# Altium footprint library DW1000.PcbLib: 1 footprints
Each footprint in its own frame and in the unit in brackets; x right, y up, seen from the top. Pads: shape width x height; smd on the part's side, far side on the other; paste and mask are expansions set on the pad; w line width, h text height; cw(c..) or ccw(c..) is an arc to the next point about the centre after c.
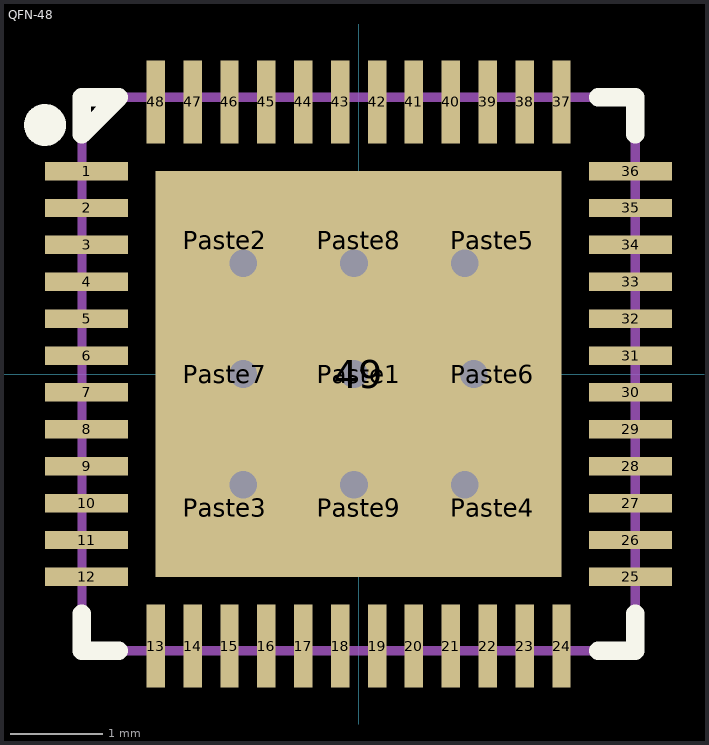
[diagram p0: the footprint, top view; thin cyan lines are the x and y axes]

## QFN-48 [mm] "48 Pin QFN"
pads (58):
  rect 0.9x0.2 smd mask+0.05: 1(-2.95,2.2) 2(-2.95,1.8) 3(-2.95,1.4) 4(-2.95,1) 5(-2.95,0.6) 6(-2.95,0.2) 7(-2.95,-0.2) 8(-2.95,-0.6) 9(-2.95,-1) 10(-2.95,-1.4) 11(-2.95,-1.8) 12(-2.95,-2.2) 25(2.95,-2.2) 26(2.95,-1.8) 27(2.95,-1.4) 28(2.95,-1) 29(2.95,-0.6) 30(2.95,-0.2) 31(2.95,0.2) 32(2.95,0.6) 33(2.95,1) 34(2.95,1.4) 35(2.95,1.8) 36(2.95,2.2)
  rect 0.2x0.9 smd mask+0.05: 13(-2.2,-2.95) 14(-1.8,-2.95) 15(-1.4,-2.95) 16(-1,-2.95) 17(-0.6,-2.95) 18(-0.2,-2.95) 19(0.2,-2.95) 20(0.6,-2.95) 21(1,-2.95) 22(1.4,-2.95) 23(1.8,-2.95) 24(2.2,-2.95) 37(2.2,2.95) 38(1.8,2.95) 39(1.4,2.95) 40(1,2.95) 41(0.6,2.95) 42(0.2,2.95) 43(-0.2,2.95) 44(-0.6,2.95) 45(-1,2.95) 46(-1.4,2.95) 47(-1.8,2.95) 48(-2.2,2.95)
  rect 4.4x4.4 smd paste-4.4 mask+0.05: 49(0,0)
  rect 1.3x1.3 on Top Paste mask+0.05: Paste1(0,0) Paste2(-1.45,1.45) Paste3(-1.45,-1.45) Paste4(1.45,-1.45) Paste5(1.45,1.45) Paste6(1.45,0) Paste7(-1.45,0) Paste8(0,1.45) Paste9(0,-1.45)
via -0.05,1.2 diameter 0.6 hole 0.3
via -0.05,0 diameter 0.6 hole 0.3
via 1.25,0 diameter 0.6 hole 0.3
via -1.25,0 diameter 0.6 hole 0.3
via -1.25,-1.2 diameter 0.6 hole 0.3
via -0.05,-1.2 diameter 0.6 hole 0.3
via 1.15,-1.2 diameter 0.6 hole 0.3
via -1.25,1.2 diameter 0.6 hole 0.3
via 1.15,1.2 diameter 0.6 hole 0.3
Top Overlay:
  circle w0.254: c-3.4,2.7 r0.1
  lines w0.2: -3,-2.6 -3,-3 -2.6,-3 ; 2.6,-3 3,-3 3,-2.6 ; 2.6,3 3,3 3,2.6 ; -3,2.6 -3,3 -2.6,3 -3,2.6
Mechanical 13:
  lines w0.1: -3,-3 -3,3 3,3 3,-3 -3,-3
  text ".Designator" at -2.921,3.937 h0.8
3D body: height 1, standoff 0, extent -3,-3 3,3